# Altium schematic symbol library Components - 17.05.23 - 14.12.SchLib: 1 symbol
Pins are listed as number, name and electrical type; pins without a type are passive.

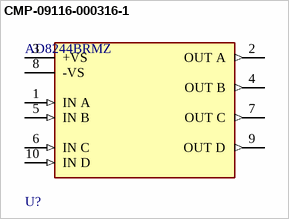
[diagram p0: symbol CMP-09116-000316-1]

## CMP-09116-000316-1
designator U?, comment AD8244BRMZ
IC OPAMP JFET 4 CIRCUIT 10MSOP; Input Bias Current: 0.5pA; Quiescent Current: 180uA; Number of Amplifiers: 4; Amplifier Type: PRECISION; -3db Bandwidth: 3MHz; Max Frequency: 1kHz; Min Supply Voltage: 3V; Input Capacitance: 3.3pF; Bandwidth: 3.6MHz; Voltage Gain: 0dB; Max Supply Voltage: 36V; Output Current per Channel: 8mA; Common Mode Rejection Ratio: 61.8dB; Slew Rate: 0.8V/µs; Input Offset Voltage (Vos): 350uV; Min Dual Supply Voltage: 1.5V; Max Dual Supply Voltage: 18V; Nominal Supply Current: 2.5mA; Power Supply Rejection Ratio (PSRR): 90dB; Settling Time: 18us; Gain Bandwidth Product: 3MHz; Max Operating Temperature: 85°C; Height: 0.95mm; Series: -; Operating Supply Current: 180uA; REACH SVHC: No SVHC; Length: 3.1mm; Packaging: Rail/Tube; Case/Package: MSOP; Width: 3.1mm; Lead Free: Contains Lead; Number of Pins: 10; Number of Circuits: 4; Mount: Surface Mount; Min Operating Temperature: -40°C
footprint FP-RM-10-IPC_A
footprint FP-RM-10-IPC_C
footprint FP-RM-10-IPC_B
pins: 1 IN A (in), 2 OUT A (out), 3 +VS (power), 4 OUT B (out), 5 IN B (in), 6 IN C (in), 7 OUT C (out), 8 -VS (power), 9 OUT D (out), 10 IN D (in)